# EAGLE library part E32-915T30S (library E32-915T30S)
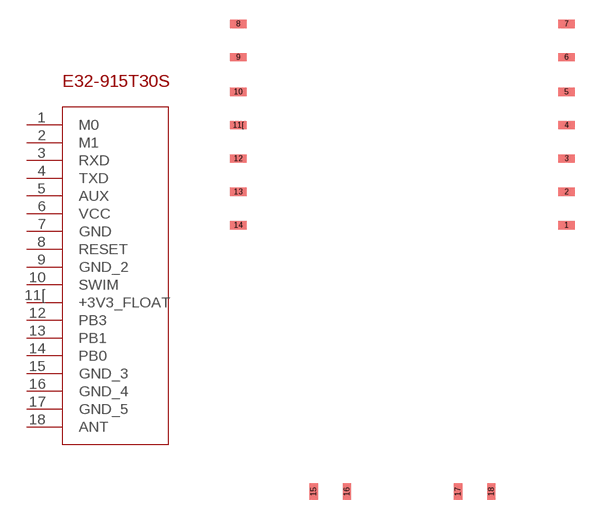
[diagram p0: symbol with the pads of E32-915T30S; footprint E32-915T30S]

Designator prefix -

## E32-915T30S  [E32-915T30S]
1  M0
2  M1
3  RXD
4  TXD
5  AUX
6  VCC
7  GND
8  RESET
9  GND_2
10  SWIM
11[  +3V3_FLOAT
12  PB3
13  PB1
14  PB0
15  GND_3
16  GND_4
17  GND_5
18  ANT

## Footprint E32-915T30S (pad centres in mm)
smd 1.27 x 0.635: 1 25,20.28; 2 25,22.82; 3 25,25.36; 4 25,27.9; 5 25,30.44; 6 25,33.08; 7 25,35.62; 8 0,35.62; 9 0,33.08; 10 0,30.44; 11[ 0,27.9; 12 0,25.36; 13 0,22.82; 14 0,20.28
smd 0.635 x 1.27: 15 5.73,0; 16 8.27,0; 17 16.73,0; 18 19.27,0